# Altium schematic symbol library buck.SchLib: 12 symbols
Pins are listed as number, name and electrical type; pins without a type are passive.

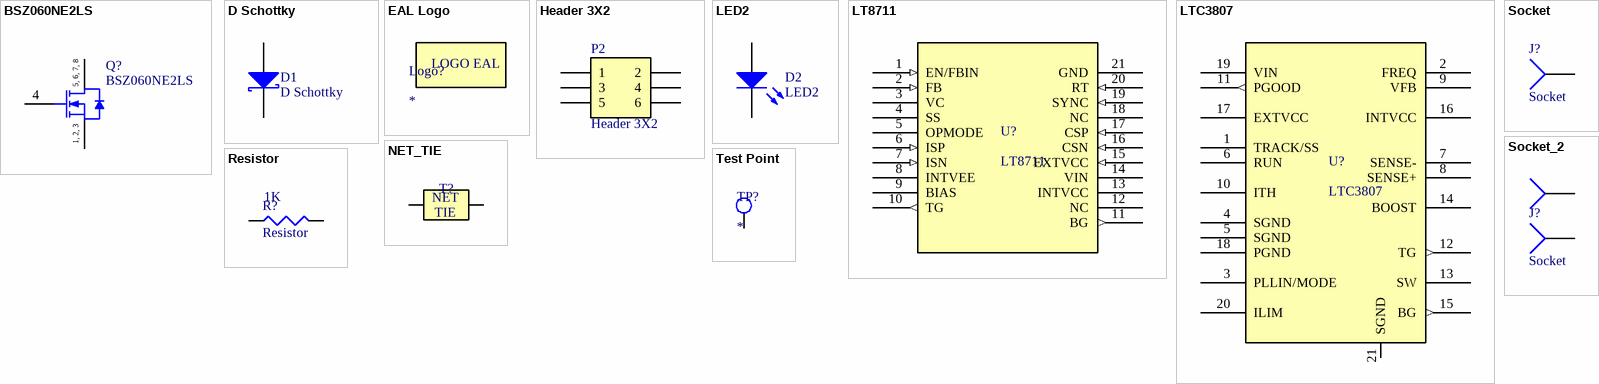
[diagram p0: symbols BSZ060NE2LS to Test Point]

## BSZ060NE2LS
designator Q?
N-Channel OptiMOS Power-MOSFET, 25 V VDS, 40 A ID, -55 to 150 degC, PG-TSDSON-8, Reel, Green; Manufacturer: Infineon; Green: TRUE; ID (max): 40 A; IDpuls (max): 160 A; Polarity: N; Ptot (max): 26 W; QG: 9.1 nC; RDS (on) (max): 6 mOhm; RDS (on) (max) (@4.5V): 8.1 mOhm; Rth: 4.9 K/W; RthJA (max): 62 K/W; VDS (max): 25 V; VGS(th) (max): 2 V; VGS(th) (min): 1.2 V; DatasheetVersion: Rev. 2.1; PackageVersion: Rev. 02, 12/2010; PackageReference: PG-TSDSON-8; PackageDescription: 8-Pin Plastic (Green) Thin Dual Small Outline Non-Leaded Package, 3.3 x 3.3 mm Body, 0.65 mm Pitch; Supplier 1: Mouser; Supplier Part Number 1: 726-BSZ060NE2LS; Supplier 2: Digi-Key; Supplier Part Number 2: BSZ060NE2LSTR-ND; Supplier 3: Digi-Key; Supplier Part Number 3: BSZ060NE2LSCT-ND; Supplier 4: Digi-Key; Supplier Part Number 4: BSZ060NE2LSDKR-ND; Halogen-free: TRUE; Packing: Reel; RthJC (max): 4.9 K/W; Mounting Technology: Surface Mount; PartNumber: BSZ060NE2LS; ComponentLink1Description: Manufacturer URL; ComponentLink1URL: http://www.infineon.com/; ComponentLink2Description: Datasheet; ComponentLink2URL: http://www.infineon.com/dgdl/BSZ060NE2LS_Rev+2.1.pdf?folderId=db3a304313b8b5a60113cee8763b02d7&fileId=db3a30432ea425a4012ec927cb360e1f; ComponentLink3Description: Package Specification; ComponentLink3URL: http://www.infineon.com/dgdl/DS_BSZ023N04LS_2_0_N.T..pdf?folderId=db3a304313b8b5a60113cee8763b02d7&fileId=db3a3043353fdc160135530f51f54823
footprint INF-PG-TSDSON-8_FL_V (TSDSON, 8-Leads, Body 3.3x3.3mm, Pitch 0.65mm)
pins: 1 SOURCE, 2 SOURCE, 3 SOURCE, 4 GATE, 5 DRAIN, 6 DRAIN, 7 DRAIN, 8 DRAIN
text: 5, 6, 7, 8; 1, 2, 3

## D Schottky
designator D1
Schottky Diode; Published: 8-Jun-2000; LatestRevisionDate: 17-Jul-2002; LatestRevisionNote: Re-released for DXP Platform.; PackageReference: SMB; Publisher: Altium Limited; PackageDescription: DO-214-AA/SMB; 2 C-Bend Leads; Body 5.3 x 3.6 mm, inc. leads (LxW); Code_JEDEC: DO-214-AA
simulation model SKYDIODE (Diode)
signal-integrity model D Schottky
footprint SOD323 (SOD323, 2-Leads, Body 1,30x1,70mm, IPC Medium Density)
pins: 1 K, 2 A

## EAL Logo
designator Logo?
Logo des EAL
footprint EAL_LOGO (Logo des EAL)
text: LOGO EAL

## Header 3X2
designator P2
Header, 3-Pin, Dual row; LatestRevisionDate: 17-Jul-2002; LatestRevisionNote: Re-released for DXP Platform.; Publisher: Altium Limited
signal-integrity model Connector
footprint HDR2X3 (Connector; Header; 3x2 Position)
pins: 1, 2, 3, 4, 5, 6

## LED2
designator D2
Typical RED, GREEN, YELLOW, AMBER GaAs LED; Published: 8-Jun-2000; LatestRevisionDate: 17-Jul-2002; LatestRevisionNote: Re-released for DXP Platform.; PackageVersion: Feb-2002; PackageReference: 3.2X1.6X1.1; Publisher: Altium Limited; PackageDescription: SM LED; 2 Flat Leads
simulation model LED2 (Diode)
footprint DIOC3216X15N (Chip Diode, 2-Leads, Body 3,18x1,60mm, IPC Medium Density)
pins: 1 K, 2 A

## LT8711
designator U?
Micropower Synchronous Multitopology Controller with 42V Input Capability
footprint TSOP65P640X120_HS-21N (TSOP, 20-Leads, Body 6,50x4,40mm, Pitch 0,65mm, Thermal Pad 3,86x2,74mm, IPC Medium Density)
pins: 1 EN/FBIN (in), 2 FB (in), 3 VC, 4 SS, 5 OPMODE, 6 ISP (in), 7 ISN (in), 8 INTVEE, 9 BIAS (power), 10 TG (out), 11 BG (out), 12 NC, 13 INTVCC, 14 VIN (power), 15 EXTVCC (in), 16 CSN (in), 17 CSP (in), 18 NC, 19 SYNC (in), 20 RT (in), 21 GND (power)

## LTC3807
designator U?
Low IQ, Synchronous Step-Down Controller with 24V Output Voltage Capability
footprint TSOP65P640X120_HS-21N (TSOP, 20-Leads, Body 6,50x4,40mm, Pitch 0,65mm, Thermal Pad 3,86x2,74mm, IPC Medium Density)
pins: 1 TRACK/SS, 2 FREQ, 3 PLLIN/MODE, 4 SGND (power), 5 SGND (power), 6 RUN, 7 SENSE-, 8 SENSE+, 9 VFB, 10 ITH, 11 PGOOD (out), 12 TG (out), 13 SW (power), 14 BOOST (power), 15 BG (out), 16 INTVCC (power), 17 EXTVCC (power), 18 PGND (power), 19 VIN (power), 20 ILIM, 21 SGND

## NET_TIE
designator T?, comment Net Tie  (value not drawn)  (net tie, no BOM)
ClassName: *
footprint NET_TIE_VIAS (Net Tie)
footprint NET_TIE_PADS (Net Tie)
pins: 1, 2
text: NET; TIE

## Resistor
designator R?  value 1K
Published: 8-Jun-2000; LatestRevisionDate: 29-May-2009; LatestRevisionNote: IPC-7351 Footprint Added.; PackageReference: J1-0603; Publisher: Altium Limited; PackageDescription: Chip Resistor
simulation model RESISTOR (Resistor)
signal-integrity model Res
footprint RESC0402 (Chip Resistor, 2-Leads, Body 1,00x0,50mm, IPC Medium Density)
footprint RESC0603 (Chip Resistor, 2-Leads, Body 1,60x0,85mm, IPC Medium Density)
footprint RESC0805 (Chip Resistor, 2-Leads, Body 2,00x1,25mm, IPC Medium Density)
footprint RESC1206 (Chip Resistor, 2-Leads, Body 3,10x1,60mm, IPC Medium Density)
footprint RESC1210 (Chip Resistor, 2-Leads, Body 3,20x2,50mm, IPC Medium Density)
footprint RESC1210 (Chip Resistor, 2-Leads, Body 3,20x2,50mm, IPC Medium Density)
footprint RESC1218 (Chip Resistor, 2-Leads, Body 3,10x4,60mm, IPC Medium Density)
footprint RESC2010 (Chip Resistor, 2-Leads, Body 5,00x2,50mm, IPC Medium Density)
footprint RESC2512 (Chip Resistor, 2-Leads, Body 6,30x3,15mm, IPC Medium Density)
footprint current_sense_shunt (Resistor Metal Element Current Sense)
pins: 1, 2

## Socket
designator J?
LatestRevisionDate: 02-Okt-2017; LatestRevisionNote: Footprint Banana; Distributor: http://de.farnell.com/cliff-electronic-components/fcr7350b/buchse-pcb-4mm-r-a-s16n-pc-blk/dp/1854507
footprint PIN1 (Connector; Plug)
signal-integrity model Connector
footprint banana_socket
pins: 1

## Socket_2
designator J?, comment Socket
LatestRevisionDate: 02-Okt-2017; LatestRevisionNote: Footprint Banana; Distributor: http://de.farnell.com/cliff-electronic-components/fcr7350b/buchse-pcb-4mm-r-a-s16n-pc-blk/dp/1854507
signal-integrity model Connector
footprint SCREW_CONNECTOR
pins: 1, 2

## Test Point
designator TP?
footprint TEST POINT
pins: 1